# Altium schematic symbol library ADuM1402.Schlib: 1 symbol
Pins are listed as number, name and electrical type; pins without a type are passive.

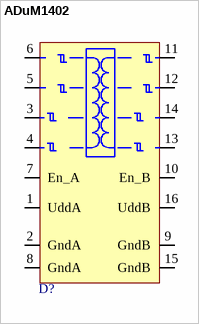
[diagram p0: symbol ADuM1402]

## ADuM1402
designator D?  (value not drawn)
Four channel isolator (2+2)
footprint SO-16
pins: 1 UddA (power), 2 GndA (power), 3, 4, 5, 6, 7 En_A, 8 GndA (power), 9 GndB (power), 10 En_B, 11, 12, 13, 14, 15 GndB (power), 16 UddB (power)